# EAGLE library part USB-C_RECEPTACLE (library m_connector)
ATOM A02960 USB-C Receptacle
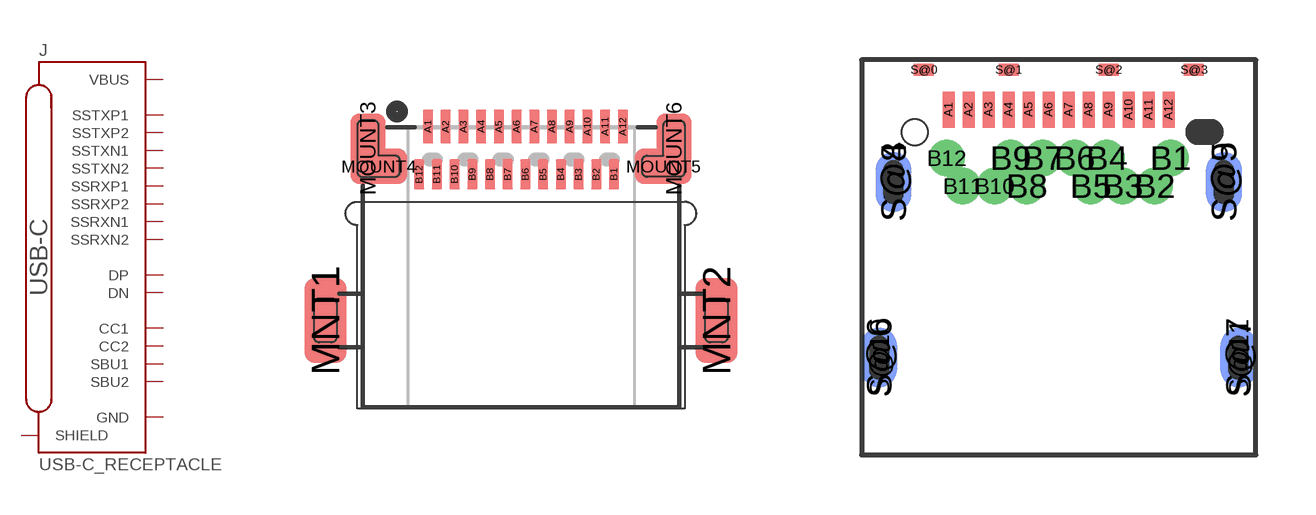
[diagram p24: symbol with the pads of ATOM-USB624FC-C2051200; footprints ATOM-USB624FC-C2051200, ATOM-USB624FC-C2014202]

Designator prefix J

## USB-C_RECEPTACLE (MANUF: ATOM; PARTNUM: USB624FC-C2051200)  [ATOM-USB624FC-C2051200]
A1  GND  pas
A2  SSTXP1  pas
A3  SSTXN1  pas
A4  VBUS  pas
A5  CC1  pas
A6  DP  pas
A7  DN  pas
A8  SBU1  pas
A9  VBUS  pas
A10  SSRXN2  pas
A11  SSRXP2  pas
A12  GND  pas
B1  GND  pas
B2  SSTXP2  pas
B3  SSTXN2  pas
B4  VBUS  pas
B5  CC2  pas
B6  DP  pas
B7  DN  pas
B8  SBU2  pas
B9  VBUS  pas
B10  SSRXN1  pas
B11  SSRXP1  pas
B12  GND  pas
MNT1  SHIELD  pas
MNT2  SHIELD  pas
MOUNT3  SHIELD  pas
MOUNT4  SHIELD  pas
MOUNT5  SHIELD  pas
MOUNT6  SHIELD  pas

## USB-C_RECEPTACLETOPMOUNT  [ATOM-USB624FC-C2014202]
A1  GND  pas
A2  SSTXP1  pas
A3  SSTXN1  pas
A4  VBUS  pas
A5  CC1  pas
A6  DP  pas
A7  DN  pas
A8  SBU1  pas
A9  VBUS  pas
A10  SSRXN2  pas
A11  SSRXP2  pas
A12  GND  pas
B1  GND  pas
B2  SSTXP2  pas
B3  SSTXN2  pas
B4  VBUS  pas
B5  CC2  pas
B6  DP  pas
B7  DN  pas
B8  SBU2  pas
B9  VBUS  pas
B10  SSRXN1  pas
B11  SSRXP1  pas
B12  GND  pas
S@0  SHIELD  pas
S@1  SHIELD  pas
S@2  SHIELD  pas
S@3  SHIELD  pas
S@4  SHIELD  pas
S@5  SHIELD  pas
S@6  SHIELD  pas
S@7  SHIELD  pas
S@8  SHIELD  pas
S@9  SHIELD  pas
S@10  SHIELD  pas
S@11  SHIELD  pas

## USB-C_RECEPTACLEMOLEX-1054500101  [MOLEX_1054500101]
A1  GND  pas
A2  SSTXP1  pas
A3  SSTXN1  pas
A4  VBUS  pas
A5  CC1  pas
A6  DP  pas
A7  DN  pas
A8  SBU1  pas
A9  VBUS  pas
A10  SSRXN2  pas
A11  SSRXP2  pas
A12  GND  pas
B1  GND  pas
B2  SSTXP2  pas
B3  SSTXN2  pas
B4  VBUS  pas
B5  CC2  pas
B6  DP  pas
B7  DN  pas
B8  SBU2  pas
B9  VBUS  pas
B10  SSRXN1  pas
B11  SSRXP1  pas
B12  GND  pas
P$1  SHIELD  pas
P$2  SHIELD  pas
P$3  SHIELD  pas
P$4  SHIELD  pas

## USB-C_RECEPTACLETE-C2295018 (MANUF: TE; PARTNUM: 2295018-2)  [TE-C2295018]
Pads as for ATOM-USB624FC-C2051200

## Footprint ATOM-USB624FC-C2051200 (pad centres in mm)
ATOM USB 3.1 24P Female SMT USB-C Receptacle Based on data from ATOM-A02960 drawing, rev A Updated 2017-03-29
smd 0.3 x 0.95: A1 -2.625,5.475; A2 -2.125,5.475; A3 -1.625,5.475; A4 -1.125,5.475; A5 -0.625,5.475; A6 -0.125,5.475; A7 0.375,5.475; A8 0.875,5.475; A9 1.375,5.475; A10 1.875,5.475; A11 2.375,5.475; A12 2.875,5.475
smd 0.3 x 0.85: B1 2.625,4.125; B2 2.125,4.125; B3 1.625,4.125; B4 1.125,4.125; B5 0.625,4.125; B6 0.125,4.125; B7 -0.375,4.125; B8 -0.875,4.125; B9 -1.375,4.125; B10 -1.875,4.125; B11 -2.375,4.125; B12 -2.875,4.125
smd 1.2 x 2.4: MNT1 -5.52,0; MNT2 5.52,0
smd 1 x 2: MOUNT3 -4.32,4.85; MOUNT6 4.32,4.85
smd 1.6 x 1: MOUNT4 -4.02,4.35; MOUNT5 4.02,4.35

## Footprint ATOM-USB624FC-C2014202 (pad centres in mm)
smd 0.3 x 0.9: A1 -2.75,2.36; A2 -2.25,2.36; A3 -1.75,2.36; A4 -1.25,2.36; A5 -0.75,2.36; A6 -0.25,2.36; A7 0.25,2.36; A8 0.75,2.36; A9 1.25,2.36; A10 1.75,2.36; A11 2.25,2.36; A12 2.75,2.36
drill 0.4 pad 0.5: B1 2.8,1.15; B2 2.4,0.45; B3 1.6,0.45; B4 1.2,1.15; B5 0.8,0.45; B6 0.4,1.15; B7 -0.4,1.15; B8 -0.8,0.45; B9 -1.2,1.15; B10 -1.6,0.45; B11 -2.4,0.45; B12 -2.8,1.15
smd 0.5 x 0.3: S@0 -3.37,3.35; S@1 -1.25,3.35; S@2 1.25,3.35; S@3 3.38,3.35
smd 0.9 x 1.5: S@4 -4.13,0.55; S@5 4.13,0.55; S@6 -4.49,-3.84; S@7 4.49,-3.84
smd 0.9 x 1.5 bottom: S@8 -4.13,0.55; S@9 4.13,0.55; S@10 -4.49,-3.84; S@11 4.49,-3.84
hole 0.65 at -3.6,1.8

## Footprint MOLEX_1054500101 (pad centres in mm)
smd 0.3 x 0.76: A1 -3,0; A2 -2.5,0; A3 -2,0; A4 -1.5,0; A5 -1,0; A6 -0.5,0; A7 0.5,0; A8 1,0; A9 1.5,0; A10 2,0; A11 2.5,0; A12 3,0
smd 1 x 0.7: B1 3.09,-1.27; B12 -3.1,-1.27
smd 0.3 x 0.7: B2 2.24,-1.27; B3 1.75,-1.27; B4 1.25,-1.27; B5 0.75,-1.27; B6 0.25,-1.27; B7 -0.25,-1.27; B8 -0.75,-1.27; B9 -1.25,-1.27; B10 -1.75,-1.27; B11 -2.25,-1.27
smd 1.1 x 2.1: P$1 -4.32,-0.4; P$2 4.32,-0.4
smd 1.1 x 2.6: P$3 -4.32,-5.76; P$4 4.32,-5.76

## Footprint TE-C2295018 (pad centres in mm)
ATOM USB 3.1 24P Female SMT USB-C Receptacle Based on data from ATOM-A02960 drawing, rev A Updated 2017-03-29
smd 0.3 x 0.7: A1 -2.75,4.63; A2 -2.25,4.63; A3 -1.75,4.63; A4 -1.25,4.63; A5 -0.75,4.63; A6 -0.25,4.63; A7 0.25,4.63; A8 0.75,4.63; A9 1.25,4.63; A10 1.75,4.63; A11 2.25,4.63; A12 2.75,4.63; B1 3,3.43; B2 2.5,3.43; B3 2,3.43; B4 1.5,3.43; B5 1,3.43; B6 0.5,3.43; B7 -0.5,3.43; B8 -1,3.43; B9 -1.5,3.43; B10 -2,3.43; B11 -2.5,3.43; B12 -3,3.43
smd 1.1 x 2.2: MNT1 -5.97,0; MNT2 5.97,0
smd 0.9 x 1.8: MOUNT3 -4.55,4.23; MOUNT6 4.55,4.23
smd 1.5 x 1: MOUNT4 -4.25,3.795; MOUNT5 4.26,3.795